# Altium footprint library SOIC127P600X170-9N.PcbLib: 1 footprints
Each footprint in its own frame and in the unit in brackets; x right, y up, seen from the top. Pads: shape width x height; smd on the part's side, far side on the other; paste and mask are expansions set on the pad; w line width, h text height; cw(c..) or ccw(c..) is an arc to the next point about the centre after c.
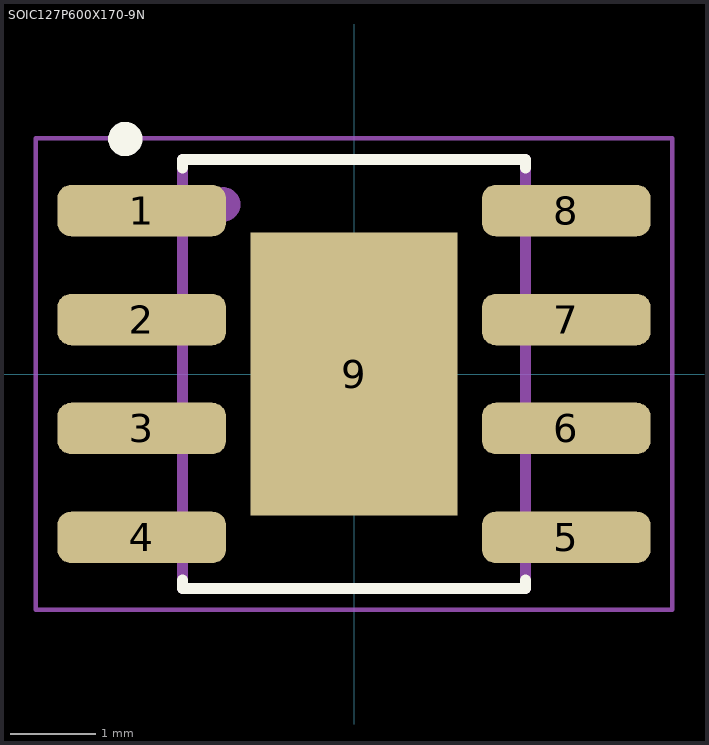
[diagram p0: the footprint, top view; thin cyan lines are the x and y axes]

## SOIC127P600X170-9N [mm]
pads (9):
  rrect54% 1.97x0.6 smd: 1(-2.475,1.905) 2(-2.475,0.635) 3(-2.475,-0.635) 4(-2.475,-1.905) 5(2.475,-1.905) 6(2.475,-0.635) 7(2.475,0.635) 8(2.475,1.905)
  rect 2.41x3.3 smd paste-3: 9(0,0)
Top Overlay:
  circle w0.2: c-2.667,2.74 r0.1
  lines w0.127: -2,-2.4 -2,-2.5 2,-2.5 2,-2.4 ; -2,2.4 -2,2.5 2,2.5 2,2.4
Top Paste:
  region: 0.935,0.135 0.135,0.135 0.135,1.375 0.935,1.375
  region: 0.935,-1.377 0.135,-1.377 0.135,-0.135 0.935,-0.135
  region: -0.135,-1.378 -0.937,-1.378 -0.937,-0.135 -0.135,-0.135
  region: -0.135,0.135 -0.937,0.135 -0.937,1.375 -0.135,1.375
Mechanical 13:
  circle w0.2: c-1.524,1.978 r0.1
  lines w0.127: -2,-2.5 2,-2.5 2,2.5 -2,2.5 -2,-2.5
Mechanical 15:
  lines w0.05: -3.71,-2.75 3.71,-2.75 3.71,2.75 -3.71,2.75 -3.71,-2.75
3D body "step_temp.STEP": height 1.7, standoff 0, extent -2.451,-2.997 2.451,2.997